# Altium footprint library WPME-FISM.PcbLib: 31 footprints (part 2 of 2)
Each footprint in its own frame and in the unit in brackets; x right, y up, seen from the top. Pads: shape width x height; smd on the part's side, far side on the other; paste and mask are expansions set on the pad; w line width, h text height; cw(c..) or ccw(c..) is an arc to the next point about the centre after c.
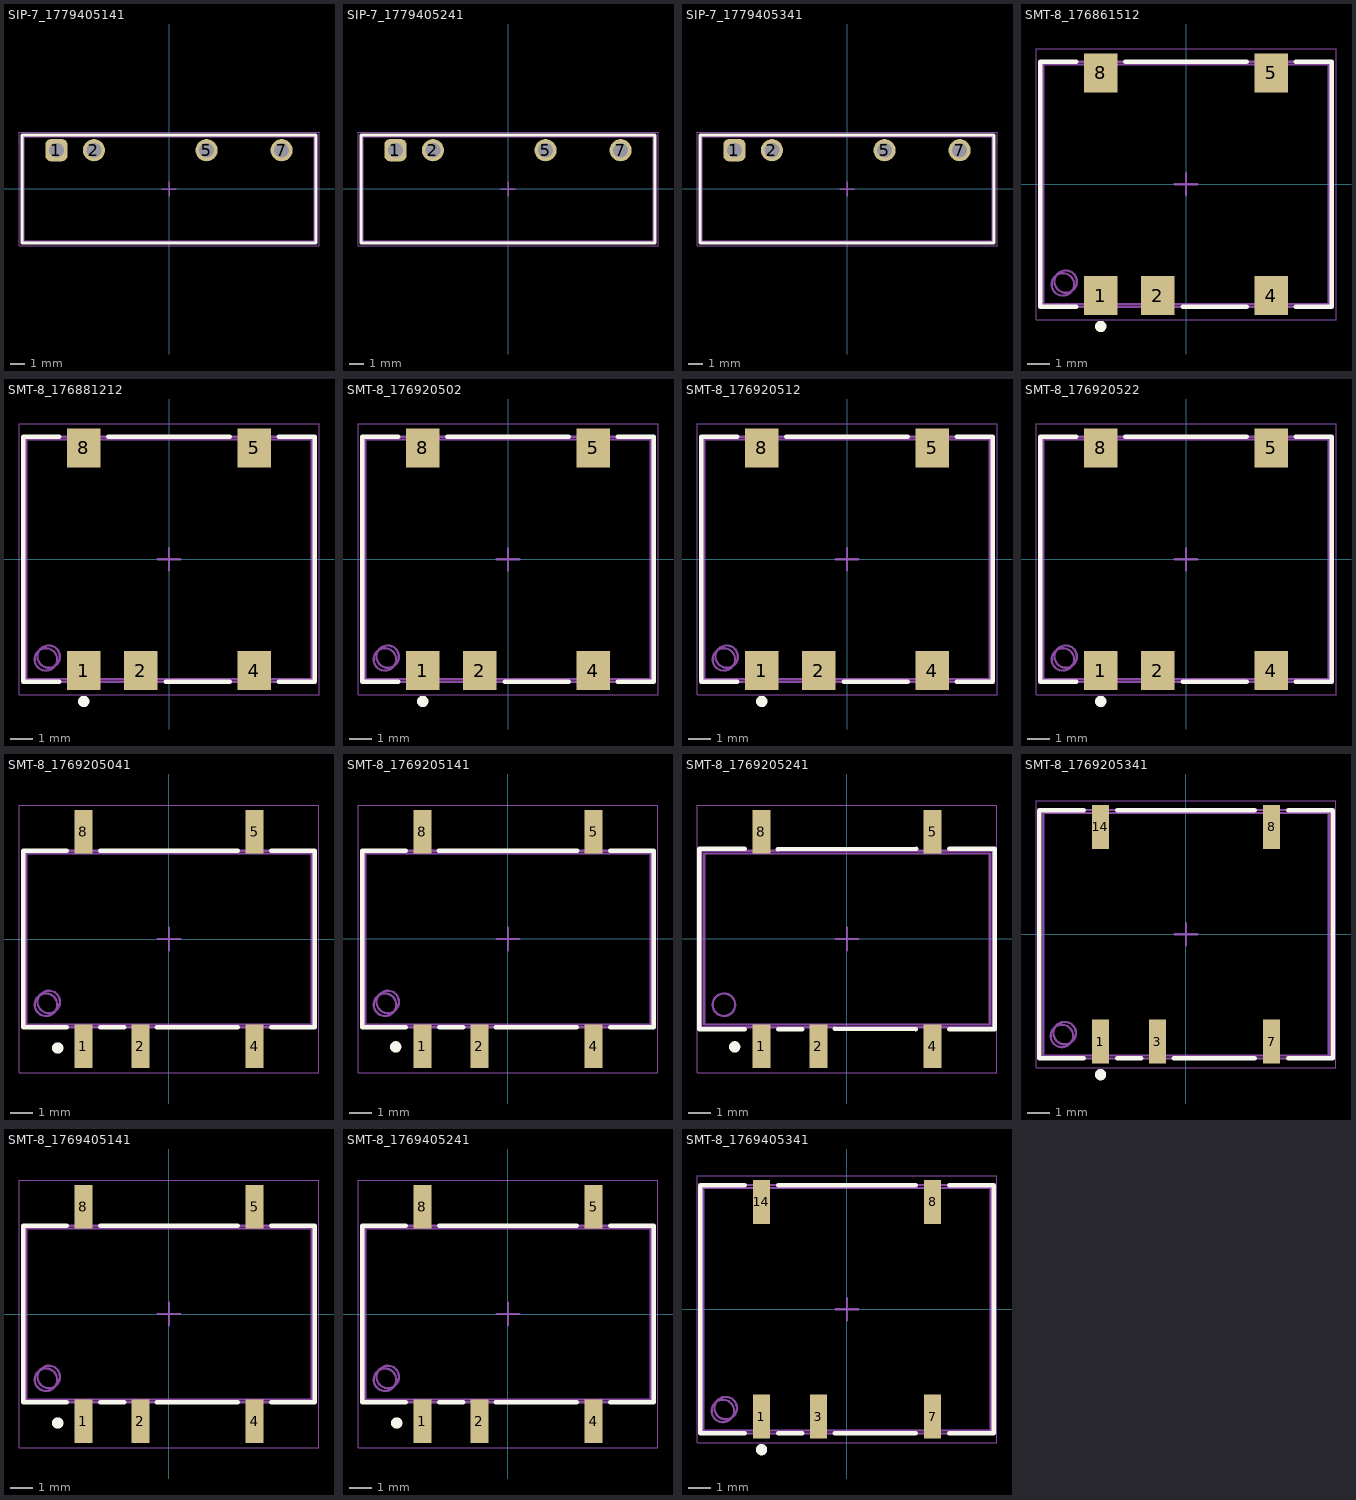
[diagram p1: the footprints below, top view; thin cyan lines are the x and y axes]

## SIP-7_1779405141 [mm] "Fixed Isolated Module, SIP-7, body 19.65 x 7.05 mm"
height 10.16
pads (4):
  rrect50% 1.5x1.5 hole 1: 1(-7.62,2.625)
  round 1.5 hole 1: 2(-5.08,2.625) 5(2.54,2.625) 7(7.62,2.625)
Top Overlay:
  lines w0.2: -9.95,-3.65 -9.95,3.65 9.95,3.65 9.95,-3.65 -9.95,-3.65
Top Assembly:
  lines w0.1: -9.95,-3.65 -9.95,3.65 9.95,3.65 9.95,-3.65 -9.95,-3.65
Top Designator:
  text ".Designator" at -3.647,-0.357 h1
Top 3D Body:
  lines w0.1: -9.825,-3.525 9.825,-3.525 9.825,3.525 -9.825,3.525 -9.825,-3.525
Top Courtyard:
  lines w0.05: -10.15,-3.85 10.15,-3.85 10.15,3.85 -10.15,3.85 -10.15,-3.85
Top Component Center:
  lines w0.1: -0.5,0 0.5,0 ; 0,-0.5 0,0.5
3D body "Download_STP_1779405241_rev1.stp": height 10.21, standoff -4.05, extent -9.825,-3.525 9.825,3.525

## SIP-7_1779405241 [mm] "Fixed Isolated Module, SIP-7, body 19.65 x 7.05 mm"
height 10.16
pads (4):
  rrect50% 1.5x1.5 hole 1: 1(-7.62,2.625)
  round 1.5 hole 1: 2(-5.08,2.625) 5(2.54,2.625) 7(7.62,2.625)
Top Overlay:
  lines w0.2: -9.95,-3.65 9.95,-3.65 9.95,3.65 -9.95,3.65 -9.95,-3.65
Top Assembly:
  lines w0.1: -9.95,-3.65 9.95,-3.65 9.95,3.65 -9.95,3.65 -9.95,-3.65
Top Designator:
  text ".Designator" at -3.647,-0.357 h1
Top 3D Body:
  lines w0.1: -9.825,-3.525 -9.825,3.525 9.825,3.525 9.825,-3.525 -9.825,-3.525
Top Courtyard:
  lines w0.05: -10.15,-3.85 -10.15,3.85 10.15,3.85 10.15,-3.85 -10.15,-3.85
Top Component Center:
  lines w0.1: -0.5,0 0.5,0 ; 0,-0.5 0,0.5
3D body "Download_STP_1779405241_rev1.stp": height 10.21, standoff -4.05, extent -9.825,-3.525 9.825,3.525

## SIP-7_1779405341 [mm] "Fixed Isolated Module, SIP-7, body 19.65 x 7.05 mm"
height 10.16
pads (4):
  rrect50% 1.5x1.5 hole 1: 1(-7.62,2.625)
  round 1.5 hole 1: 2(-5.08,2.625) 5(2.54,2.625) 7(7.62,2.625)
Top Overlay:
  lines w0.2: -9.95,-3.65 9.95,-3.65 9.95,3.65 -9.95,3.65 -9.95,-3.65
Top Assembly:
  lines w0.1: -9.95,-3.65 9.95,-3.65 9.95,3.65 -9.95,3.65 -9.95,-3.65
Top Designator:
  text ".Designator" at -3.647,-0.357 h1
Top 3D Body:
  lines w0.1: -9.825,-3.525 -9.825,3.525 9.825,3.525 9.825,-3.525 -9.825,-3.525
Top Courtyard:
  lines w0.05: -10.15,-3.85 -10.15,3.85 10.15,3.85 10.15,-3.85 -10.15,-3.85
Top Component Center:
  lines w0.1: -0.5,0 0.5,0 ; 0,-0.5 0,0.5
3D body "Download_STP_1779405241_rev1.stp": height 10.21, standoff -4.05, extent -9.825,-3.525 9.825,3.525

## SMT-8_176861512 [mm] "Fixed Isolated Module, SMT-8, body 12.75 x 10.70 mm"
height 6.95
pads (5):
  rect 1.5x1.75 smd paste-2539.97: 1(-3.81,-4.975) 2(-1.27,-4.975) 4(3.81,-4.975) 5(3.81,4.975) 8(-3.81,4.975)
Top Overlay:
  circle w0.25: c-3.81,-6.35 r0.125
  lines w0.2: -4.9,-5.475 -6.5,-5.475 -6.5,5.475 -4.9,5.475 ; -2.72,5.475 2.72,5.475 ; -0.15,-5.475 2.72,-5.475 ; 4.9,-5.475 6.5,-5.475 6.5,5.475 4.9,5.475
Top Paste:
  region: -4.46,-4.2 -3.16,-4.2 -3.16,-5.75 -4.46,-5.75
  region: -1.92,-4.2 -0.62,-4.2 -0.62,-5.75 -1.92,-5.75
  region: 3.16,-4.2 4.46,-4.2 4.46,-5.75 3.16,-5.75
  region: 3.16,5.75 4.46,5.75 4.46,4.2 3.16,4.2
  region: -4.46,5.75 -3.16,5.75 -3.16,4.2 -4.46,4.2
Top Assembly:
  circle w0.1: c-5.375,-4.35 r0.5
  lines w0.1: -6.5,-5.475 -6.5,5.475 6.5,5.475 6.5,-5.475 -6.5,-5.475
Top Designator:
  text ".Designator" at -3.647,-0.357 h1
Top 3D Body:
  circle w0.1: c-5.5,-4.475 r0.5
  lines w0.1: -6.375,-5.35 -6.375,5.35 6.375,5.35 6.375,-5.35 -6.375,-5.35
Top Courtyard:
  lines w0.05: -6.7,-6.05 -6.7,6.05 6.7,6.05 6.7,-6.05 -6.7,-6.05
Top Component Center:
  lines w0.1: -0.5,0 0.5,0 ; 0,-0.5 0,0.5
3D body "176861512.stp": height 6.96, standoff 0, extent -6.375,-5.55 6.375,5.55

## SMT-8_176881212 [mm] "Fixed Isolated Module, SMT-8, body 12.75 x 10.70 mm"
height 6.95
pads (5):
  rect 1.5x1.75 smd paste-2539.97: 1(-3.81,-4.975) 2(-1.27,-4.975) 4(3.81,-4.975) 5(3.81,4.975) 8(-3.81,4.975)
Top Overlay:
  circle w0.25: c-3.81,-6.35 r0.125
  lines w0.2: -4.9,-5.475 -6.5,-5.475 -6.5,5.475 -4.9,5.475 ; -2.72,5.475 2.72,5.475 ; -0.15,-5.475 2.72,-5.475 ; 4.9,-5.475 6.5,-5.475 6.5,5.475 4.9,5.475
Top Paste:
  region: -4.46,5.75 -3.16,5.75 -3.16,4.2 -4.46,4.2
  region: 3.16,5.75 4.46,5.75 4.46,4.2 3.16,4.2
  region: 3.16,-4.2 4.46,-4.2 4.46,-5.75 3.16,-5.75
  region: -1.92,-4.2 -0.62,-4.2 -0.62,-5.75 -1.92,-5.75
  region: -4.46,-4.2 -3.16,-4.2 -3.16,-5.75 -4.46,-5.75
Top Assembly:
  circle w0.1: c-5.375,-4.35 r0.5
  lines w0.1: -6.5,-5.475 6.5,-5.475 6.5,5.475 -6.5,5.475 -6.5,-5.475
Top Designator:
  text ".Designator" at -3.647,-0.357 h1
Top 3D Body:
  circle w0.1: c-5.5,-4.475 r0.5
  lines w0.1: -6.375,-5.35 6.375,-5.35 6.375,5.35 -6.375,5.35 -6.375,-5.35
Top Courtyard:
  lines w0.05: -6.7,-6.05 6.7,-6.05 6.7,6.05 -6.7,6.05 -6.7,-6.05
Top Component Center:
  lines w0.1: -0.5,0 0.5,0 ; 0,-0.5 0,0.5
3D body "176881212.stp": height 6.96, standoff 0, extent -6.375,-5.55 6.375,5.55

## SMT-8_176920502 [mm] "Fixed Isolated Module, SMT-8, body 12.75 x 10.70 mm"
height 6.95
pads (5):
  rect 1.5x1.75 smd paste-2539.97: 1(-3.81,-4.975) 2(-1.27,-4.975) 4(3.81,-4.975) 5(3.81,4.975) 8(-3.81,4.975)
Top Overlay:
  circle w0.25: c-3.81,-6.35 r0.125
  lines w0.2: -4.9,-5.475 -6.5,-5.475 -6.5,5.475 -4.9,5.475 ; -2.72,5.475 2.72,5.475 ; -0.15,-5.475 2.72,-5.475 ; 4.9,-5.475 6.5,-5.475 6.5,5.475 4.9,5.475
Top Paste:
  region: -4.46,5.75 -3.16,5.75 -3.16,4.2 -4.46,4.2
  region: 3.16,5.75 4.46,5.75 4.46,4.2 3.16,4.2
  region: 3.16,-4.2 4.46,-4.2 4.46,-5.75 3.16,-5.75
  region: -1.92,-4.2 -0.62,-4.2 -0.62,-5.75 -1.92,-5.75
  region: -4.46,-4.2 -3.16,-4.2 -3.16,-5.75 -4.46,-5.75
Top Assembly:
  circle w0.1: c-5.375,-4.35 r0.5
  lines w0.1: -6.5,-5.475 6.5,-5.475 6.5,5.475 -6.5,5.475 -6.5,-5.475
Top Designator:
  text ".Designator" at -3.647,-0.357 h1
Top 3D Body:
  circle w0.1: c-5.5,-4.475 r0.5
  lines w0.1: -6.375,-5.35 6.375,-5.35 6.375,5.35 -6.375,5.35 -6.375,-5.35
Top Courtyard:
  lines w0.05: -6.7,-6.05 6.7,-6.05 6.7,6.05 -6.7,6.05 -6.7,-6.05
Top Component Center:
  lines w0.1: -0.5,0 0.5,0 ; 0,-0.5 0,0.5
3D body "176920502.stp": height 6.96, standoff 0, extent -6.375,-5.55 6.375,5.55

## SMT-8_176920512 [mm] "Fixed Isolated Module, SMT-8, body 12.75 x 10.70 mm"
height 6.95
pads (5):
  rect 1.5x1.75 smd paste-2539.97: 1(-3.81,-4.975) 2(-1.27,-4.975) 4(3.81,-4.975) 5(3.81,4.975) 8(-3.81,4.975)
Top Overlay:
  circle w0.25: c-3.81,-6.35 r0.125
  lines w0.2: -4.9,-5.475 -6.5,-5.475 -6.5,5.475 -4.9,5.475 ; -2.72,5.475 2.72,5.475 ; -0.15,-5.475 2.72,-5.475 ; 4.9,-5.475 6.5,-5.475 6.5,5.475 4.9,5.475
Top Paste:
  region: -4.46,-4.2 -3.16,-4.2 -3.16,-5.75 -4.46,-5.75
  region: -1.92,-4.2 -0.62,-4.2 -0.62,-5.75 -1.92,-5.75
  region: 3.16,-4.2 4.46,-4.2 4.46,-5.75 3.16,-5.75
  region: 3.16,5.75 4.46,5.75 4.46,4.2 3.16,4.2
  region: -4.46,5.75 -3.16,5.75 -3.16,4.2 -4.46,4.2
Top Assembly:
  circle w0.1: c-5.375,-4.35 r0.5
  lines w0.1: -6.5,-5.475 -6.5,5.475 6.5,5.475 6.5,-5.475 -6.5,-5.475
Top Designator:
  text ".Designator" at -3.647,-0.357 h1
Top 3D Body:
  circle w0.1: c-5.5,-4.475 r0.5
  lines w0.1: -6.375,-5.35 -6.375,5.35 6.375,5.35 6.375,-5.35 -6.375,-5.35
Top Courtyard:
  lines w0.05: -6.7,-6.05 -6.7,6.05 6.7,6.05 6.7,-6.05 -6.7,-6.05
Top Component Center:
  lines w0.1: -0.5,0 0.5,0 ; 0,-0.5 0,0.5
3D body "176920512.stp": height 6.96, standoff 0, extent -6.375,-5.55 6.375,5.55

## SMT-8_176920522 [mm] "Fixed Isolated Module, SMT-8, body 12.75 x 10.70 mm"
height 6.95
pads (5):
  rect 1.5x1.75 smd paste-2539.97: 1(-3.81,-4.975) 2(-1.27,-4.975) 4(3.81,-4.975) 5(3.81,4.975) 8(-3.81,4.975)
Top Overlay:
  circle w0.25: c-3.81,-6.35 r0.125
  lines w0.2: -4.9,-5.475 -6.5,-5.475 -6.5,5.475 -4.9,5.475 ; -2.72,5.475 2.72,5.475 ; -0.15,-5.475 2.72,-5.475 ; 4.9,-5.475 6.5,-5.475 6.5,5.475 4.9,5.475
Top Paste:
  region: -4.46,-4.2 -3.16,-4.2 -3.16,-5.75 -4.46,-5.75
  region: -1.92,-4.2 -0.62,-4.2 -0.62,-5.75 -1.92,-5.75
  region: 3.16,-4.2 4.46,-4.2 4.46,-5.75 3.16,-5.75
  region: 3.16,5.75 4.46,5.75 4.46,4.2 3.16,4.2
  region: -4.46,5.75 -3.16,5.75 -3.16,4.2 -4.46,4.2
Top Assembly:
  circle w0.1: c-5.375,-4.35 r0.5
  lines w0.1: -6.5,-5.475 -6.5,5.475 6.5,5.475 6.5,-5.475 -6.5,-5.475
Top Designator:
  text ".Designator" at -3.647,-0.357 h1
Top 3D Body:
  circle w0.1: c-5.5,-4.475 r0.5
  lines w0.1: -6.375,-5.35 -6.375,5.35 6.375,5.35 6.375,-5.35 -6.375,-5.35
Top Courtyard:
  lines w0.05: -6.7,-6.05 -6.7,6.05 6.7,6.05 6.7,-6.05 -6.7,-6.05
Top Component Center:
  lines w0.1: -0.5,0 0.5,0 ; 0,-0.5 0,0.5
3D body "176920522.stp": height 6.96, standoff 0, extent -6.375,-5.55 6.375,5.55

## SMT-8_1769205041 [mm] "Power Module, SMT, body 13.20 x 8.50 mm"
height 7.25
pads (5):
  rect 0.8x1.95 smd: 1(-3.81,-4.775) 2(-1.27,-4.775) 4(3.81,-4.775) 5(3.81,4.775) 8(-3.81,4.775)
Top Overlay:
  circle w0.25: c-4.95,-4.85 r0.125
  lines w0.2: -4.55,-3.925 -6.475,-3.925 -6.475,3.925 -4.55,3.925 ; -3.07,-3.925 -2,-3.925 ; -3.07,3.925 3.07,3.925 ; -0.55,-3.925 3.07,-3.925 ; 4.55,-3.925 6.475,-3.925 6.475,3.925 4.55,3.925
Top Assembly:
  circle w0.1: c-5.475,-2.925 r0.5
  lines w0.1: -6.475,-3.925 -6.475,3.925 6.475,3.925 6.475,-3.925 -6.475,-3.925
Top Designator:
  text ".Designator" at -3.647,-0.357 h1
Top 3D Body:
  circle w0.1: c-5.35,-2.8 r0.5
  lines w0.1: -6.35,-3.8 6.35,-3.8 6.35,3.8 -6.35,3.8 -6.35,-3.8
Top Courtyard:
  lines w0.05: -6.675,-5.95 6.675,-5.95 6.675,5.95 -6.675,5.95 -6.675,-5.95
Top Component Center:
  lines w0.1: -0.5,0 0.5,0 ; 0,-0.5 0,0.5
3D body "1769205041.stp": height 6.35, standoff 0, extent -6.35,-5.525 6.35,5.525

## SMT-8_1769205141 [mm] "Power Module, SMT, body 12.70 x 7.60 mm"
height 6.25
pads (5):
  rect 0.8x1.95 smd: 1(-3.81,-4.775) 2(-1.27,-4.775) 4(3.81,-4.775) 5(3.81,4.775) 8(-3.81,4.775)
Top Overlay:
  circle w0.25: c-5,-4.8 r0.125
  lines w0.2: -4.55,-3.925 -6.475,-3.925 -6.475,3.925 -4.55,3.925 ; -3.09,3.925 3.09,3.925 ; -3.07,-3.925 -2,-3.925 ; -0.55,-3.925 3.07,-3.925 ; 4.55,-3.925 6.475,-3.925 6.475,3.925 4.55,3.925
Top Assembly:
  circle w0.1: c-5.475,-2.925 r0.5
  lines w0.1: -6.475,-3.925 6.475,-3.925 6.475,3.925 -6.475,3.925 -6.475,-3.925
Top Designator:
  text ".Designator" at -3.647,-0.357 h1
Top 3D Body:
  circle w0.1: c-5.35,-2.8 r0.5
  lines w0.1: -6.35,-3.8 6.35,-3.8 6.35,3.8 -6.35,3.8 -6.35,-3.8
Top Courtyard:
  lines w0.05: -6.675,-5.95 -6.675,5.95 6.675,5.95 6.675,-5.95 -6.675,-5.95
Top Component Center:
  lines w0.1: -0.5,0 0.5,0 ; 0,-0.5 0,0.5
3D body "1769205141.stp": height 6.37, standoff 0.02, extent -6.35,-5.525 6.35,5.525

## SMT-8_1769205241 [mm] "Power Module, SMT, body 12.70 x 7.60 mm"
height 6.25
pads (5):
  rect 0.8x1.95 smd: 1(-3.81,-4.775) 2(-1.27,-4.775) 4(3.81,-4.775) 5(3.81,4.775) 8(-3.81,4.775)
Top Overlay:
  circle w0.25: c-5,-4.8 r0.125
  lines w0.2: -4.55,-4.025 -6.575,-4.025 -6.575,4.025 -4.55,4.025 ; -3.09,4 3.09,4.025 ; -3.07,-4.025 -2,-4.025 ; -0.55,-4 3.07,-4.025 ; 4.55,-4.025 6.575,-4.025 6.575,4.025 4.55,4.025
Top Assembly:
  circle w0.1: c-5.475,-2.925 r0.5
  lines w0.1: -6.475,-3.925 6.475,-3.925 6.475,3.925 -6.475,3.925 -6.475,-3.925
Top Designator:
  text ".Designator" at -3.647,-0.357 h1
Top 3D Body:
  lines w0.1: -6.35,-3.8 6.35,-3.8 6.35,3.8 -6.35,3.8 -6.35,-3.8
Top Courtyard:
  lines w0.05: -6.675,-5.95 -6.675,5.95 6.675,5.95 6.675,-5.95 -6.675,-5.95
Top Component Center:
  lines w0.1: -0.5,0 0.5,0 ; 0,-0.5 0,0.5
3D body "1769205241.stp": height 6.37, standoff 0.02, extent -6.35,-5.525 6.35,5.525

## SMT-8_1769205341 [mm] "Power Module, SMT, body 13.20 x 8.50 mm"
height 7.25
pads (5):
  rect 0.75x1.95 smd: 1(-3.81,-4.775) 3(-1.27,-4.775) 7(3.81,-4.775) 8(3.81,4.775) 14(-3.81,4.775)
Top Overlay:
  circle w0.25: c-3.8,-6.25 r0.125
  lines w0.2: -4.55,-5.525 -6.525,-5.525 -6.525,5.525 -4.55,5.525 ; -3.07,-5.525 -2,-5.525 ; -3.07,5.525 3.07,5.525 ; -0.55,-5.525 3.07,-5.525 ; 4.55,-5.525 6.525,-5.525 6.525,5.525 4.55,5.525
Top Assembly:
  circle w0.1: c-5.525,-4.525 r0.5
  lines w0.1: -6.525,-5.525 -6.525,5.525 6.525,5.525 6.525,-5.525 -6.525,-5.525
Top Designator:
  text ".Designator" at -3.647,-0.357 h1
Top 3D Body:
  circle w0.1: c-5.4,-4.4 r0.5
  lines w0.1: -6.35,-5.4 6.35,-5.4 6.35,5.4 -6.35,5.4 -6.35,-5.4
Top Courtyard:
  lines w0.05: -6.675,-5.95 6.675,-5.95 6.675,5.95 -6.675,5.95 -6.675,-5.95
Top Component Center:
  lines w0.1: -0.5,0 0.5,0 ; 0,-0.5 0,0.5
3D body "1769205341.stp": height 7.1, standoff 0, extent -6.4,-5.55 6.4,5.55

## SMT-8_1769405141 [mm] "Power Module, SMT, body 13.20 x 8.50 mm"
height 7.25
pads (5):
  rect 0.8x1.95 smd: 1(-3.81,-4.775) 2(-1.27,-4.775) 4(3.81,-4.775) 5(3.81,4.775) 8(-3.81,4.775)
Top Overlay:
  circle w0.25: c-4.95,-4.85 r0.125
  lines w0.2: -4.55,-3.925 -6.475,-3.925 -6.475,3.925 -4.55,3.925 ; -3.07,-3.925 -2,-3.925 ; -3.07,3.925 3.07,3.925 ; -0.55,-3.925 3.07,-3.925 ; 4.55,-3.925 6.475,-3.925 6.475,3.925 4.55,3.925
Top Assembly:
  circle w0.1: c-5.475,-2.925 r0.5
  lines w0.1: -6.475,-3.925 6.475,-3.925 6.475,3.925 -6.475,3.925 -6.475,-3.925
Top Designator:
  text ".Designator" at -3.647,-0.357 h1
Top 3D Body:
  circle w0.1: c-5.35,-2.8 r0.5
  lines w0.1: -6.35,-3.8 -6.35,3.8 6.35,3.8 6.35,-3.8 -6.35,-3.8
Top Courtyard:
  lines w0.05: -6.675,-5.95 -6.675,5.95 6.675,5.95 6.675,-5.95 -6.675,-5.95
Top Component Center:
  lines w0.1: -0.5,0 0.5,0 ; 0,-0.5 0,0.5
3D body "1769405141.stp": height 6.35, standoff 0, extent -6.35,-5.525 6.35,5.525

## SMT-8_1769405241 [mm] "Power Module, SMT, body 13.20 x 8.50 mm"
height 7.25
pads (5):
  rect 0.8x1.95 smd: 1(-3.81,-4.775) 2(-1.27,-4.775) 4(3.81,-4.775) 5(3.81,4.775) 8(-3.81,4.775)
Top Overlay:
  circle w0.25: c-4.95,-4.85 r0.125
  lines w0.2: -4.55,-3.925 -6.475,-3.925 -6.475,3.925 -4.55,3.925 ; -3.07,-3.925 -2,-3.925 ; -3.07,3.925 3.07,3.925 ; -0.55,-3.925 3.07,-3.925 ; 4.55,-3.925 6.475,-3.925 6.475,3.925 4.55,3.925
Top Assembly:
  circle w0.1: c-5.475,-2.925 r0.5
  lines w0.1: -6.475,-3.925 -6.475,3.925 6.475,3.925 6.475,-3.925 -6.475,-3.925
Top Designator:
  text ".Designator" at -3.647,-0.357 h1
Top 3D Body:
  circle w0.1: c-5.35,-2.8 r0.5
  lines w0.1: -6.35,-3.8 6.35,-3.8 6.35,3.8 -6.35,3.8 -6.35,-3.8
Top Courtyard:
  lines w0.05: -6.675,-5.95 6.675,-5.95 6.675,5.95 -6.675,5.95 -6.675,-5.95
Top Component Center:
  lines w0.1: -0.5,0 0.5,0 ; 0,-0.5 0,0.5
3D body "1769405241.stp": height 6.35, standoff 0, extent -6.35,-5.525 6.35,5.525

## SMT-8_1769405341 [mm] "Power Module, SMT, body 13.20 x 8.50 mm"
height 7.25
pads (5):
  rect 0.75x1.95 smd: 1(-3.81,-4.775) 3(-1.27,-4.775) 7(3.81,-4.775) 8(3.81,4.775) 14(-3.81,4.775)
Top Overlay:
  circle w0.25: c-3.8,-6.25 r0.125
  lines w0.2: -4.55,-5.525 -6.525,-5.525 -6.525,5.525 -4.55,5.525 ; -3.07,-5.525 -2,-5.525 ; -3.07,5.525 3.07,5.525 ; -0.55,-5.525 3.07,-5.525 ; 4.55,-5.525 6.525,-5.525 6.525,5.525 4.55,5.525
Top Assembly:
  circle w0.1: c-5.525,-4.525 r0.5
  lines w0.1: -6.525,-5.525 6.525,-5.525 6.525,5.525 -6.525,5.525 -6.525,-5.525
Top Designator:
  text ".Designator" at -3.647,-0.357 h1
Top 3D Body:
  circle w0.1: c-5.4,-4.4 r0.5
  lines w0.1: -6.4,-5.4 -6.4,5.4 6.4,5.4 6.4,-5.4 -6.4,-5.4
Top Courtyard:
  lines w0.05: -6.675,-5.95 -6.675,5.95 6.675,5.95 6.675,-5.95 -6.675,-5.95
Top Component Center:
  lines w0.1: -0.5,0 0.5,0 ; 0,-0.5 0,0.5
3D body "1769405341.stp": height 7.1, standoff 0, extent -6.4,-5.55 6.4,5.55